# Altium schematic symbol library DIODE,Zener,15V,100mW,SMD.Schlib: 1 symbol
Pins are listed as number, name and electrical type; pins without a type are passive.

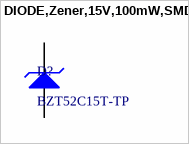
[diagram p0: symbol DIODE,Zener,15V,100mW,SMD]

## DIODE,Zener,15V,100mW,SMD
designator D?, comment BZT52C15T-TP
Zener Diode ±6% Surface Mount SOD-523
pins: 1 K, 2 A